# Altium integrated library quartz resonator.IntLib: 10 symbols
Pins are listed as number, name and electrical type; pins without a type are passive.

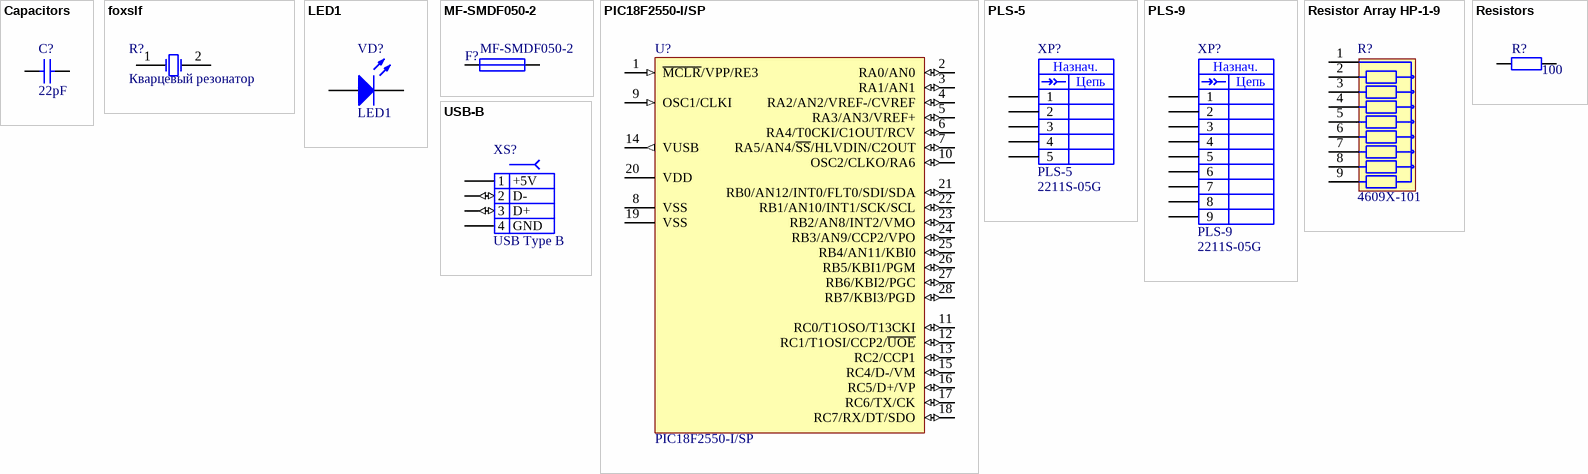
[diagram p0: symbols Capacitors to USB-B]

## Capacitors
designator C?  value 22pF  (hidden comment: Capacitors)
Capacitor; Tolerance: ±10%; Category: Конденсаторы; Type: *
simulation model CAP (Capacitor)
signal-integrity model Cap
footprint Capacitor K73-17 L=12mm (Capacitors metallized polyethylene terephthalate)
footprint Capacitor K73-17 L=18mm (Capacitors metallized polyethylene terephthalate)
footprint Capacitor K73-17 L=25mm (Capacitors metallized polyethylene terephthalate)
footprint KM-5b  400mil (13x12.5x10.16) (H90, C = 0.15uF)
footprint Capacitor K73-14M L=46mm (Capacitors 4 kV)
footprint Capacitor ceramic (Capacitors ceramic)
footprint SMD 0402 (1005) max
footprint SMD 0402 (1005) min
footprint SMD 0603 (1608) max
footprint SMD 0603 (1608) min
footprint SMD 0805 (2012) max
footprint SMD 0805 (2012) min
footprint B32922C3474K (Film Capacitors, EMI Suppression Capacitors (MKP))
footprint K75-40A
footprint K78-49A (МЕТАЛЛОПЛЕНОЧНЫЕ  ПОЛИПРОПИЛЕНОВЫЕ КОНДЕНСАТОРЫ)
footprint K78-49A min (МЕТАЛЛОПЛЕНОЧНЫЕ  ПОЛИПРОПИЛЕНОВЫЕ КОНДЕНСАТОРЫ)
pins: 1, 2

## foxslf
designator R?, comment Кварцевый резонатор
footprint foxslf
pins: 1, 2

## LED1
designator VD?
Typical GaAs LED; Category: Диоды
simulation model LED1 (Diode)
footprint LED SMD 0603 Blue
footprint LED SMD 0603 Green
footprint LED SMD 0603 Red
footprint LED SMD 1206 BLUE
footprint LED SMD 1206 GREEN
footprint LED SMD 1206 RED
footprint LED SMD 1206 WHITE
footprint LED SMD 1206 YELLOW
footprint LED 3mm GREEN
footprint LED 3mm GREEN Angle (LED 3mm GREEN)
footprint LED 3mm RED
footprint LED 3mm YELLOW
footprint LED 3mm YELLOW bended
footprint LED 3mm Green SMT LONG (LED 3mm Green SMT)
footprint LED 3mm GREEN SMT
footprint LED 3mm YELLOW SMT
footprint LED 3mm YELLOW bended 4 optics (LED 3mm YELLOW bended)
footprint LED 3mm YELLOW bended 3.85 mm
footprint LED 5mm GREEN RA3mm
footprint LED 5mm GREEN RA6mm
footprint LED 5mm RED RA3mm
footprint LED 5mm RED RA6mm
footprint LED 5mm YELLOW RA3mm
footprint LED 5mm YELLOW RA6mm
pins: 1 A, 2 K

## MF-SMDF050-2
designator F?
BOURNS - MF-SMDF050-2 - FUSE, PTC RESET, 60V, 550mA, 2018; Product Range: MF-SMDF Series; Holding Current: 550; Tripping Current: 1.2; Voltage Rating: 60; Thermistor Mounting: SMD; PackageReference: PIN-W2/E2.8; PackageDescription: Thru-Hole; 2 Leads; Supplier 1: Newark; Manufacturer: BOURNS; RoHS: YES; Stock 1: 5817; Pricing 1: 1=0.532, 10=0.386, 100=0.284, 500=0.243, 1000=0.221, 2500=0.204 (USD); Operating Temperature Min: -40 C; Operating Temperature Max: 85 C; ComponentLink1URL: http://www.farnell.com/datasheets/2051466.pdf; ComponentLink1Description: Datasheet; Supplier Part Number 1: 02J2737; Category: Предохранители; Manufacturer Part Number: MF-SMDF050-2
simulation model FUSE (Spice Subcircuit)
footprint MF-SMDF050-2
pins: 1, 2

## PIC18F2550-I/SP
designator U?
High Performance, Enhanced Flash, USB Microcontroller with nanoWatt Technology, 32K Flash, 28-Pin SPDIP, Industrial Temperature Range; Published: 29-Jan-2009; LatestRevisionDate: 02-Dec-2009; LatestRevisionNote: Updated to datasheet revision E, Aug-2008; DatasheetVersion: revE, Aug-2008; PackageVersion: revBB, Aug-2009; PackageReference: SPDIP300-SP28; Publisher: Altium Limited; PackageDescription: 28-Lead Skinny Plastic Dual In-Line (SP) - 300 mil Body [SPDIP]; Supplier 1: Digi-Key; Supplier Part Number 1: PIC18F2550-I/SP-ND; Supplier 2: Farnell; Supplier Part Number 2: 9321250; Supplier 3: Farnell; Supplier Part Number 3: 1523822; ComponentLink1Description: Datasheet; ComponentLink1URL: http://ww1.microchip.com/downloads/en/DeviceDoc/39632e.pdf; ComponentLink2Description: Packaging Specification; ComponentLink2URL: http://www.microchip.com/stellent/groups/techpub_sg/documents/packagingspec/en012702.pdf; ComponentLink3Description: Microchip.com Home; ComponentLink3URL: http://www.microchip.com/
footprint SPDIP300-SP28 (DIP, 28-Leads, Row Spacing 7.62mm, Pitch 2.54mm, Body 34.9x6.8mm)
pins: 1 ~{MCLR}/VPP/RE3 (in), 2 RA0/AN0 (io), 3 RA1/AN1 (io), 4 RA2/AN2/VREF-/CVREF (io), 5 RA3/AN3/VREF+ (io), 6 RA4/T0CKI/C1OUT/RCV (io), 7 RA5/AN4/~{SS}/HLVDIN/C2OUT (io), 8 VSS (power), 9 OSC1/CLKI (in), 10 OSC2/CLKO/RA6 (io), 11 RC0/T1OSO/T13CKI (io), 12 RC1/T1OSI/CCP2/~{UOE} (io), 13 RC2/CCP1 (io), 14 VUSB (out), 15 RC4/D-/VM (io), 16 RC5/D+/VP (io), 17 RC6/TX/CK (io), 18 RC7/RX/DT/SDO (io), 19 VSS (power), 20 VDD (power), 21 RB0/AN12/INT0/FLT0/SDI/SDA (io), 22 RB1/AN10/INT1/SCK/SCL (io), 23 RB2/AN8/INT2/VMO (io), 24 RB3/AN9/CCP2/VPO (io), 25 RB4/AN11/KBI0 (io), 26 RB5/KBI1/PGM (io), 27 RB6/KBI2/PGC (io), 28 RB7/KBI3/PGD (io)

## PLS-5
designator XP?  Manufacturer Part Number: 2211S-05G
MULTICOMP - 2211S-05G - BOARD-BOARD CONNECTOR HEADER, 5 POSITION, 1ROW; Function: Назнач.; Product Range: 2211; No. of Contacts: 5; Pitch Spacing: 2.54; Contact Termination Type: Through Hole; No. of Rows: 1; Category: Разъёмы; Supplier 1: Newark; Manufacturer: MULTICOMP; RoHS: YES; Stock 1: 14520; Pricing 1: 1=0.065, 250=0.049, 500=0.044, 1000=0.04, 5000=0.036 (USD); Gender: Header; Contact Material: Copper Alloy; ComponentLink1URL: http://www.farnell.com/datasheets/1518407.pdf; ComponentLink1Description: Drawing; Supplier Part Number 1: 08N6747
footprint PLS-5
footprint PLS-5R
footprint PLS-5_SMD
pins: 1, 2, 3, 4, 5
3 alternate drawings of the same symbol
text: Цепь

## PLS-9
designator XP?  Manufacturer Part Number: 2211S-05G
MULTICOMP - 2211S-05G - BOARD-BOARD CONNECTOR HEADER, 5 POSITION, 1ROW; Function: Назнач.; Product Range: 2211; No. of Contacts: 5; Pitch Spacing: 2.54; Contact Termination Type: Through Hole; No. of Rows: 1; Category: Разъёмы; Supplier 1: Newark; Manufacturer: MULTICOMP; RoHS: YES; Stock 1: 14520; Pricing 1: 1=0.065, 250=0.049, 500=0.044, 1000=0.04, 5000=0.036 (USD); Gender: Header; Contact Material: Copper Alloy; ComponentLink1URL: http://www.farnell.com/datasheets/1518407.pdf; ComponentLink1Description: Drawing; Supplier Part Number 1: 08N6747
footprint PLS-9
pins: 1, 2, 3, 4, 5, 6, 7, 8, 9
3 alternate drawings of the same symbol
text: Цепь

## Resistor Array HP-1-9
designator R?, comment 4609X-101
RESISTOR NETWORK; Manufacturer: Bourns; Resistance: 1.5kR; Tolerance: 2%; Power Rating: 1.13W; Voltage Rating: 100V; Number of Elements: 8; Circuit Type: Bussed; Power Per Element: 200mW; Temperature Coefficient: 100ppm/°C; Insulation Resistance: 10MR; Lead Length: 3.43mm; Supplier 1: Digi-Key; Manufacturer Part Number: 4609X-101; Stock 1: 246; Pricing 1: 1=0.51, 10=0.368, 25=0.2868, 50=0.2426, 100=0.1911, 250=0.1617, 500=0.1323, 1000=0.1029, 5000=0.0978 (USD); Mount: Through Hole; Case/Package: SIP; Number of Pins: 9; Number of Terminals: 9; Contact Plating: Copper,Tin,Silver; Min Operating Temperature: -55°C; Max Operating Temperature: 125°C; Packaging: Bulk; Package Quantity: 200; Number of Resistors: 8; Termination: Pin; Military Standard: Not; Length: 22.81mm; Height: 0.2inch; Width: 0.098inch; Lead Pitch: 2.49mm; Depth: 2.49mm; Terminal Pitch: 2.54mm; Radiation Hardening: No; REACH SVHC: No SVHC; ComponentLink1URL: https://datasheet.ciiva.com/11807/0900766b8069ccfd-11807192.pdf; ComponentLink1Description: https://datasheet.ciiva.com/11807/0900766b8069ccfd-11807192.pdf; ComponentLink2URL: https://datasheet.ciiva.com/1133/682196-1133237.pdf; ComponentLink2Description: https://datasheet.ciiva.com/1133/682196-1133237.pdf; ComponentLink3URL: https://datasheet.ciiva.com/14179/ee4609x-14179639.pdf; ComponentLink3Description: https://datasheet.ciiva.com/14179/ee4609x-14179639.pdf; ComponentLink4URL: https://datasheet.ciiva.com/3264/4600x-3264394.pdf; ComponentLink4Description: https://datasheet.ciiva.com/3264/4600x-3264394.pdf; ComponentLink5URL: https://datasheet.ciiva.com/14583/70154307-14583644.pdf; ComponentLink5Description: https://datasheet.ciiva.com/14583/70154307-14583644.pdf; ComponentLink6URL: https://datasheet.ciiva.com/16827/4600x-16827453.pdf; ComponentLink6Description: https://datasheet.ciiva.com/16827/4600x-16827453.pdf; ComponentLink7URL: https://datasheet.ciiva.com/6494/4600x-6494270.pdf; ComponentLink7Description: https://datasheet.ciiva.com/6494/4600x-6494270.pdf; ComponentLink8URL: https://datasheet.ciiva.com/30175/4600x-30175422.pdf; ComponentLink8Description: https://datasheet.ciiva.com/30175/4600x-30175422.pdf; ComponentLink9URL: https://datasheet.ciiva.com/5025/4600x-73143-5025391.pdf; ComponentLink9Description: https://datasheet.ciiva.com/5025/4600x-73143-5025391.pdf; ComponentLink10URL: https://datasheet.ciiva.com/48715/001055250-da-01-en-wid-arr-4609x-101-152lf-1-5k-ohm-8w-9sip-48715815.pdf; ComponentLink10Description: https://datasheet.ciiva.com/48715/001055250-da-01-en-wid-arr-4609x-101-152lf-1-5k-ohm-8w-9sip-48715815.pdf; Supplier Part Number 1: 4609X-101-152LF-ND; Category: Резисторы
footprint HP-1-9
pins: 1, 2, 3, 4, 5, 6 (power), 7 (power), 8 (power), 9 (power)

## Resistors
designator R?, comment value 100  (hidden comment: Resistor)
Category: Резисторы; Type: *; Tolerance: *
simulation model RESISTOR (Resistor)
signal-integrity model Res
footprint Resistor MLT 0.5W Horizontal
footprint Resistor MLT 0.5W Vertical
footprint Resistor MLT 0.25W Horizontal
footprint Resistor MLT 0.25W Vertical
footprint Resistor MLT 0.125W Horizontal
footprint Resistor MLT 0.125W Vertical
footprint Resistor MLT 1W Horizontal
footprint Resistor MLT 1W Vertical
footprint Resistor MLT 2W Horizontal
footprint Resistor MLT 2W Vertical
footprint Resistor SMD 0402 (1005)
footprint Resistor Р1-35-2 1W Horizontal (High Omh ERKON resistor)
footprint Resistor ТВО-1 1W Horizontal (Resistor ТВО-1)
footprint Resistor SMD 0402 (1005) max
footprint Resistor SMD 0402 (1005) min
footprint Resistor SMD 0603 (1608) max
footprint Resistor SMD 0603 (1608) min
footprint Resistor SMD 0805 (2012) max
footprint Resistor SMD 0805 (2012) min
footprint Resistor SMD 1206 (3216) max
footprint Resistor SMD 1206 (3216) min
footprint Resistor SMD 1210 (3225) max
footprint Resistor SMD 1210 (3225) min
footprint Resistor SMD 1218 max
footprint Resistor SMD 1218 min
footprint Resistor SMD 2010 max
footprint Resistor SMD 2010 min
footprint Resistor SMD 2512 max
footprint Resistor SMD 2512 min
footprint Resistor SMD 1210 (3225)
footprint Resistor SMD 1206 (3216)
footprint Resistor SMD 0805 (2012)
footprint Resistor SMD 0603 (1608)
footprint Resistor SMD 0402 (1005)
footprint Resistor ТВО-0.5 0.5W Horizontal (Resistor ТВО-0.5)
footprint Resistor ТВО-1 1W Horizontal experimental (Resistor ТВО-1)
footprint Resistor Р1-35-2 1W Vertical (High Omh ERKON resistor)
pins: 1, 2

## USB-B
designator XS?  USB Connector Type: USB Type B  (hidden comment: USB-B)
LUMBERG - 2411 02 - USB, 2.0 TYPE B, RECEPTACLE, SMT; Manufacturer Part Number: 2411 02; USB Standard: USB 2.0; No. of Positions: 4; Connector Mounting: Through Hole Mount; SVHC: No SVHC (15-Jun-2015); Connector Mounting Orientation: PC Board; Connector Type: USB B; Contact Termination: Solder; Supplier 1: Farnell; Manufacturer: LUMBERG; RoHS: YES; Stock 1: 12175; Pricing 1: 1=0,578, 10=0,504, 50=0,452, 100=0,399, 500=0,365, 1000=0,346, 3000=0,326, 8000=0,318 (GBP); Gender: Receptacle; Orientation: Right Angle; Contact Material: Bronze; Contact Plating: Gold Plated Contacts; Contact Termination Type: Solder; Mounting Type: PCB Through Hole; No. of Contacts: 4; Operating Temperature Max: 80; Operating Temperature Min: -40; Termination Method: Solder<!--FANDB--><div class="features-and-benefits-container"></div>; ComponentLink1URL: http://www.farnell.com/cad/313079.pdf; ComponentLink1Description: Drawing; ComponentLink2URL: http://www.farnell.com/datasheets/1698414.pdf; ComponentLink2Description: Datasheet; ComponentLink3URL: http://www.farnell.com/product360s/LUMBERG-241102-TYPEB.php; ComponentLink3Description: Figure; Supplier Part Number 1: 1177885; Function: *
footprint USB BF (USB BFff)
pins: 1 +5V (power), 2 D- (io), 3 D+ (io), 4 ID, 5 GND (power)